# EAGLE library part IPB017N10N5ATMA1 (library IPB017N10N5ATMA1)
N-Channel 100 V 180A (Tc) 375W (Tc) Surface Mount PG-TO263-7 Source: Datasheet <https://www.digikey.com/en/products/detail/infineon-technologies/IPB017N10N5ATMA1/5213937?msockid=3bdc366bbe0663d83c1223c0bf3662a6>
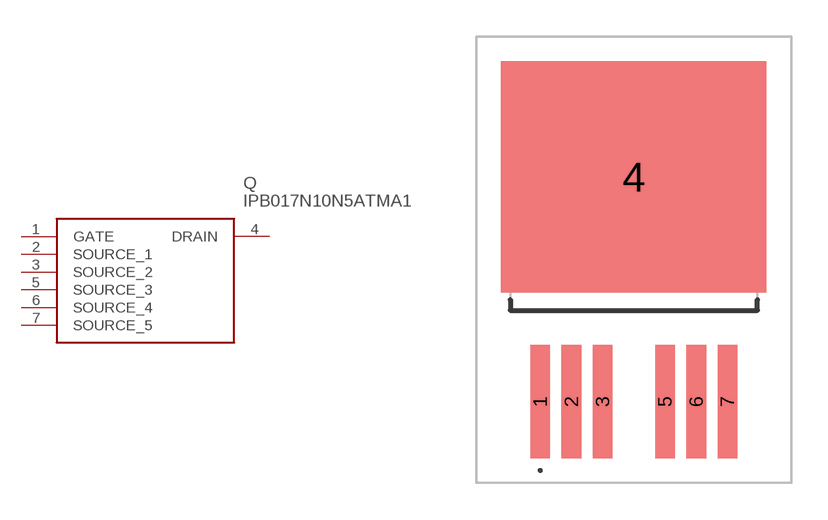
[diagram p0: symbol with the pads of IPB017N10N5ATMA1; footprint IPB017N10N5ATMA1]

Designator prefix Q

## IPB017N10N5ATMA1 (Description: N-Channel 100 V 180A (Tc) 375W (Tc) Surface Mount PG-TO263-7; Height: 4.82mm; Manufacturer_Name: Infineon; Manufacturer_Part_Number: IPB017N10N5ATMA1; Mouser_Part_Number: 726-IPB017N10N5ATMA1; Mouser_Price-Stock: https://www.mouser.co.uk/ProductDetail/Infineon-Technologies/IPB017N10N5ATMA1?qs=3Bi3m9r5MQZXrupZoiX5%252BA%3D%3D)  [IPB017N10N5ATMA1]
1  GATE
2  SOURCE_1
3  SOURCE_2
4  DRAIN
5  SOURCE_3
6  SOURCE_4
7  SOURCE_5

## Footprint IPB017N10N5ATMA1 (pad centres in mm)
D²-PAK 7pin
smd 0.8 x 4.6: 1 -3.81,-6.35; 2 -2.54,-6.35; 3 -1.27,-6.35; 5 1.27,-6.35; 6 2.54,-6.35; 7 3.81,-6.35
smd 10.8 x 9.4: 4 0,2.8